# Altium footprint library PcbLib1.PcbLib: 8 footprints
Each footprint in its own frame and in the unit in brackets; x right, y up, seen from the top. Pads: shape width x height; smd on the part's side, far side on the other; paste and mask are expansions set on the pad; w line width, h text height; cw(c..) or ccw(c..) is an arc to the next point about the centre after c.
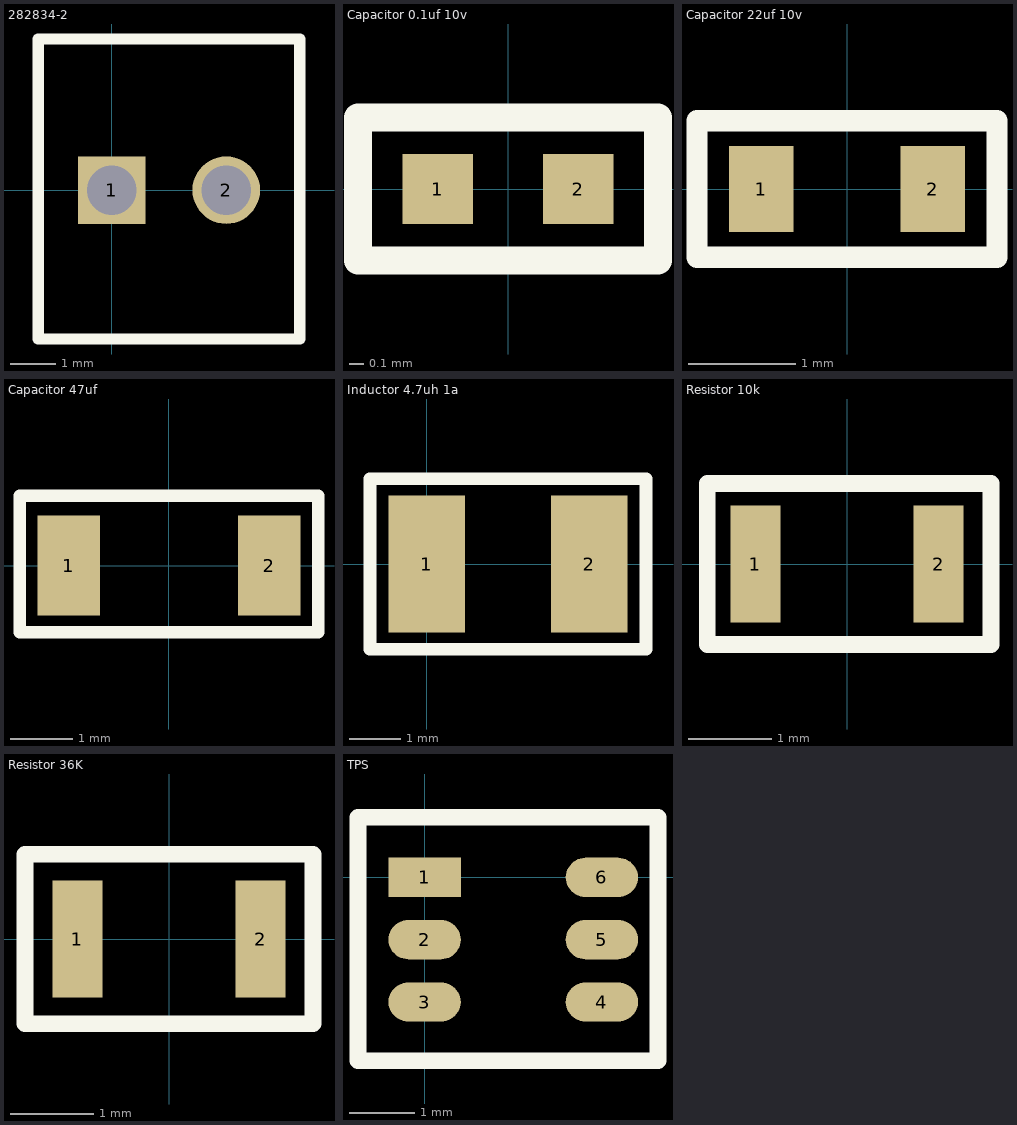
[diagram p0: the footprints below, top view; thin cyan lines are the x and y axes]

## 282834-2 [mm]
pads (2):
  rect 1.5x1.5 hole 1.1: 1(0,0)
  round 1.5 hole 1.1: 2(2.54,0)
Top Overlay:
  lines w0.254: -1.626,-3.302 4.166,-3.302 4.166,3.353 -1.626,3.353 -1.626,-3.302
3D body "282834-2.step": height 13.41, standoff 0.01, extent -1.5,-3.198 4.04,3.302

## Capacitor 0.1uf 10v [mm]
pads (2):
  rect 0.5x0.5 smd: 1(-0.5,0) 2(0.5,0)
Top Overlay:
  lines w0.2: -1.067,-0.508 1.067,-0.508 1.067,0.508 -1.067,0.508 -1.067,-0.508
3D body "CAP_CL05_SAM.step": height 0.55, standoff 0, extent -0.5,-0.25 0.5,0.25

## Capacitor 22uf 10v [mm]
pads (2):
  rect 0.6x0.8 smd: 1(-0.8,0) 2(0.8,0)
Top Overlay:
  lines w0.2: -1.397,-0.635 -1.397,0.635 1.397,0.635 1.397,-0.635 -1.397,-0.635
3D body "CAP_CL_10_SAM.step": height 0.89, standoff 0, extent -0.851,-0.444 0.851,0.444

## Capacitor 47uf [mm]
pads (2):
  rect 1x1.6 smd: 1(-1.6,0) 2(1.6,0)
Top Overlay:
  lines w0.2: -2.388,-1.067 -2.388,1.118 2.388,1.118 2.388,-1.067 -2.388,-1.067
3D body "CAP_CL31_SAM.step": height 1, standoff 0, extent -1.6,-0.8 1.6,0.8

## Inductor 4.7uh 1a [mm]
pads (2):
  rect 1.5x2.7 smd: 1(0,0) 2(3.2,0)
Top Overlay:
  lines w0.254: -1.118,-1.676 4.318,-1.676 4.318,1.676 -1.118,1.676 -1.118,-1.676
3D body "IND_TAIYO_BRL3225_TAY.step": height 1.73, standoff 0, extent -0.127,-1.349 3.277,1.349

## Resistor 10k [mm]
pads (2):
  rect 0.6x1.4 smd: 1(-1.1,0) 2(1.1,0)
Top Overlay:
  lines w0.2: -1.676,-0.965 1.727,-0.965 1.727,0.965 -1.676,0.965 -1.676,-0.965
3D body "RC0805N_VIS.step": height 0.71, standoff 0, extent -1,-0.6 1,0.6

## Resistor 36K [mm]
pads (2):
  rect 0.6x1.4 smd: 1(-1.1,0) 2(1.1,0)
Top Overlay:
  lines w0.2: -1.727,-1.016 -1.727,1.016 1.727,1.016 1.727,-1.016 -1.727,-1.016
3D body "RES_CRCW_0805.step": height 0.51, standoff 0, extent -1.105,-0.698 1.105,0.698

## TPS [mm]
pads (6):
  rect 1.1x0.6 smd: 1(0,0)
  oval 1.1x0.6 smd: 2(0,-0.95) 3(0,-1.9) 4(2.7,-1.9) 5(2.7,-0.95) 6(2.7,0)
Top Overlay:
  lines w0.254: -1.016,-2.794 -1.016,0.914 3.556,0.914 3.556,-2.794 -1.016,-2.794
3D body "DDC0006A.stp": height 0.97, standoff 0, extent -0.079,-2.415 2.721,0.485